# Altium footprint library ds4424n&plus_.PcbLib: 3 footprints
Each footprint in its own frame and in the unit in brackets; x right, y up, seen from the top. Pads: shape width x height; smd on the part's side, far side on the other; paste and mask are expansions set on the pad; w line width, h text height; cw(c..) or ccw(c..) is an arc to the next point about the centre after c.
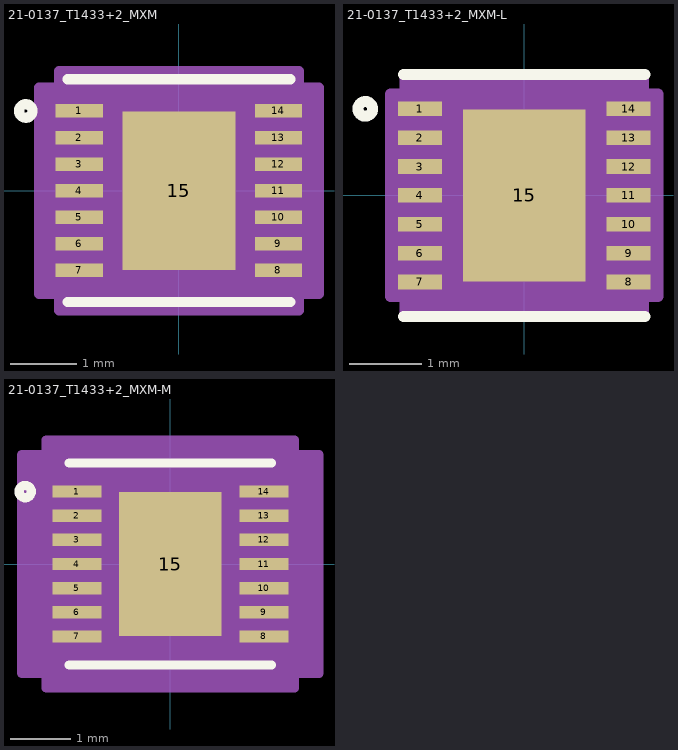
[diagram p0: the footprints below, top view; thin cyan lines are the x and y axes]

## 21-0137_T1433+2_MXM [mil]
pads (15):
  rect 28x8 smd paste+0 mask+0: 1(-59,47.24) 2(-59,31.5) 3(-59,15.75) 4(-59,0) 5(-59,-15.75) 6(-59,-31.5) 7(-59,-47.24) 8(59,-47.24) 9(59,-31.5) 10(59,-15.75) 11(59,0) 12(59,15.75) 13(59,31.5) 14(59,47.24)
  rect 67x94 smd paste+0 mask+0: 15(0,0)
Top Overlay:
  circle w6: c-90.75,47.24 r4
  lines w6: -66,-66 66,-66 ; -66,66 66,66
Mechanical 13:
  circle w1: c-45,47.24 r3
  lines w1: -12,61 ccw(c0,61) 12,61 ; -61,-61 61,-61 61,61 -61,61 -61,-61
Mechanical 15:
  region: -71,-61.24 -83,-61.24 -83,61.24 -71,61.24 -71,71 71,71 71,61.24 83,61.24 83,-61.24 71,-61.24 71,-71 -71,-71
  lines w6: -83,-61.24 -83,61.24 -71,61.24 -71,71 71,71 71,61.24 83,61.24 83,-61.24 71,-61.24 71,-71 -71,-71 -71,-61.24 -83,-61.24
3D body "21-0137_T1433+2_MXM.step": height 32.09, standoff 0, extent -60.98,-60.98 60.98,60.98

## 21-0137_T1433+2_MXM-L [mil]
pads (15):
  rect 24x8 smd paste+0 mask+0: 1(-57,47.24) 2(-57,31.5) 3(-57,15.75) 4(-57,0) 5(-57,-15.75) 6(-57,-31.5) 7(-57,-47.24) 8(57,-47.24) 9(57,-31.5) 10(57,-15.75) 11(57,0) 12(57,15.75) 13(57,31.5) 14(57,47.24)
  rect 67x94 smd paste+0 mask+0: 15(0,0)
Top Overlay:
  circle w6: c-86.75,47.24 r4
  lines w6: -66,-66 66,-66 ; -66,66 66,66
  text ".Designator" at -137.5,-25 h50
Mechanical 13:
  circle w1: c-45,47.24 r3
  lines w1: -12,61 ccw(c0,61) 12,61 ; -61,-61 61,-61 61,61 -61,61 -61,-61
  text ".Designator" at -137.5,-25 h50
Mechanical 15:
  region: -65,-55.24 -73,-55.24 -73,55.24 -65,55.24 -65,65 65,65 65,55.24 73,55.24 73,-55.24 65,-55.24 65,-65 -65,-65
  lines w6: -73,-55.24 -73,55.24 -65,55.24 -65,65 65,65 65,55.24 73,55.24 73,-55.24 65,-55.24 65,-65 -65,-65 -65,-55.24 -73,-55.24
3D body "21-0137_T1433+2_MXM.step": height 32.09, standoff 0, extent -60.98,-60.98 60.98,60.98

## 21-0137_T1433+2_MXM-M [mil]
pads (15):
  rect 32x8 smd paste+0 mask+0: 1(-61,47.24) 2(-61,31.5) 3(-61,15.75) 4(-61,0) 5(-61,-15.75) 6(-61,-31.5) 7(-61,-47.24) 8(61,-47.24) 9(61,-31.5) 10(61,-15.75) 11(61,0) 12(61,15.75) 13(61,31.5) 14(61,47.24)
  rect 67x94 smd paste+0 mask+0: 15(0,0)
Top Overlay:
  circle w6: c-94.75,47.24 r4
  lines w6: -66,-66 66,-66 ; -66,66 66,66
Mechanical 13:
  circle w1: c-45,47.24 r3
  lines w1: -12,61 ccw(c0,61) 12,61 ; -61,-61 -61,61 61,61 61,-61 -61,-61
Mechanical 15:
  region: -81,-71.24 -97,-71.24 -97,71.24 -81,71.24 -81,81 81,81 81,71.24 97,71.24 97,-71.24 81,-71.24 81,-81 -81,-81
  lines w6: -97,-71.24 -81,-71.24 -81,-81 81,-81 81,-71.24 97,-71.24 97,71.24 81,71.24 81,81 -81,81 -81,71.24 -97,71.24 -97,-71.24
3D body "21-0137_T1433+2_MXM.step": height 32.09, standoff 0, extent -60.98,-60.98 60.98,60.98